# Altium schematic symbol library WE-GFH_3225.SchLib: 12 symbols
Pins are listed as number, name and electrical type; pins without a type are passive.

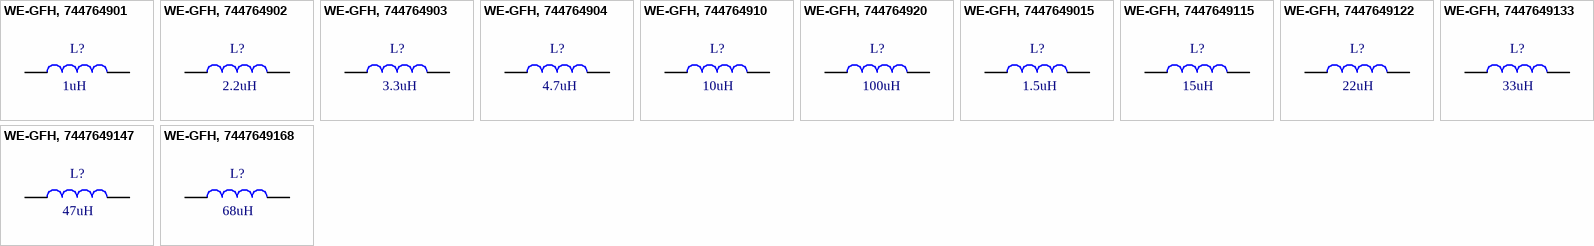
[diagram p0: symbols WE-GFH, 744764901 to WE-GFH, 7447649168]

## WE-GFH, 744764901
designator L?  value 1uH
WE-GFH High Frequency SMD Inductor, size 3225, 1uH; PartNumber: 744764901; PublishedDate: Sep. 2016; Publisher: Wurth Elektronik; ComponentLink1Description: Manufacturer; ComponentLink1URL: http://www.we-online.de; ComponentLink2Description: Datasheet; ComponentLink2URL: http://katalog.we-online.de/pbs/datasheet/744764901.pdf; Size: 3225
footprint WE-GFH_3225
pins: 1, 2

## WE-GFH, 744764902
designator L?  value 2.2uH
WE-GFH High Frequency SMD Inductor, size 3225, 2.2uH; PartNumber: 744764902; PublishedDate: Sep. 2016; Publisher: Wurth Elektronik; ComponentLink1Description: Manufacturer; ComponentLink1URL: http://www.we-online.de; ComponentLink2Description: Datasheet; ComponentLink2URL: http://katalog.we-online.de/pbs/datasheet/744764902.pdf; Size: 3225
footprint WE-GFH_3225
pins: 1, 2

## WE-GFH, 744764903
designator L?  value 3.3uH
WE-GFH High Frequency SMD Inductor, size 3225, 3.3uH; PartNumber: 744764903; PublishedDate: Sep. 2016; Publisher: Wurth Elektronik; ComponentLink1Description: Manufacturer; ComponentLink1URL: http://www.we-online.de; ComponentLink2Description: Datasheet; ComponentLink2URL: http://katalog.we-online.de/pbs/datasheet/744764903.pdf; Size: 3225
footprint WE-GFH_3225
pins: 1, 2

## WE-GFH, 744764904
designator L?  value 4.7uH
WE-GFH High Frequency SMD Inductor, size 3225, 4.7uH; PartNumber: 744764904; PublishedDate: Sep. 2016; Publisher: Wurth Elektronik; ComponentLink1Description: Manufacturer; ComponentLink1URL: http://www.we-online.de; ComponentLink2Description: Datasheet; ComponentLink2URL: http://katalog.we-online.de/pbs/datasheet/744764904.pdf; Size: 3225
footprint WE-GFH_3225
pins: 1, 2

## WE-GFH, 744764910
designator L?  value 10uH
WE-GFH High Frequency SMD Inductor, size 3225, 10uH; PartNumber: 744764910; PublishedDate: Sep. 2016; Publisher: Wurth Elektronik; ComponentLink1Description: Manufacturer; ComponentLink1URL: http://www.we-online.de; ComponentLink2Description: Datasheet; ComponentLink2URL: http://katalog.we-online.de/pbs/datasheet/744764910.pdf; Size: 3225
footprint WE-GFH_3225
pins: 1, 2

## WE-GFH, 744764920
designator L?  value 100uH
WE-GFH High Frequency SMD Inductor, size 3225, 100uH; PartNumber: 744764920; PublishedDate: Sep. 2016; Publisher: Wurth Elektronik; ComponentLink1Description: Manufacturer; ComponentLink1URL: http://www.we-online.de; ComponentLink2Description: Datasheet; ComponentLink2URL: http://katalog.we-online.de/pbs/datasheet/744764920.pdf; Size: 3225
footprint WE-GFH_3225
pins: 1, 2

## WE-GFH, 7447649015
designator L?  value 1.5uH
WE-GFH High Frequency SMD Inductor, size 3225, 1.5uH; PartNumber: 7447649015; PublishedDate: Sep. 2016; Publisher: Wurth Elektronik; ComponentLink1Description: Manufacturer; ComponentLink1URL: http://www.we-online.de; ComponentLink2Description: Datasheet; ComponentLink2URL: http://katalog.we-online.de/pbs/datasheet/7447649015.pdf; Size: 3225
footprint WE-GFH_3225
pins: 1, 2

## WE-GFH, 7447649115
designator L?  value 15uH
WE-GFH High Frequency SMD Inductor, size 3225, 15uH; PartNumber: 7447649115; PublishedDate: Sep. 2016; Publisher: Wurth Elektronik; ComponentLink1Description: Manufacturer; ComponentLink1URL: http://www.we-online.de; ComponentLink2Description: Datasheet; ComponentLink2URL: http://katalog.we-online.de/pbs/datasheet/7447649115.pdf; Size: 3225
footprint WE-GFH_3225
pins: 1, 2

## WE-GFH, 7447649122
designator L?  value 22uH
WE-GFH High Frequency SMD Inductor, size 3225, 22uH; PartNumber: 7447649122; PublishedDate: Sep. 2016; Publisher: Wurth Elektronik; ComponentLink1Description: Manufacturer; ComponentLink1URL: http://www.we-online.de; ComponentLink2Description: Datasheet; ComponentLink2URL: http://katalog.we-online.de/pbs/datasheet/7447649122.pdf; Size: 3225
footprint WE-GFH_3225
pins: 1, 2

## WE-GFH, 7447649133
designator L?  value 33uH
WE-GFH High Frequency SMD Inductor, size 3225, 33uH; PartNumber: 7447649133; PublishedDate: Sep. 2016; Publisher: Wurth Elektronik; ComponentLink1Description: Manufacturer; ComponentLink1URL: http://www.we-online.de; ComponentLink2Description: Datasheet; ComponentLink2URL: http://katalog.we-online.de/pbs/datasheet/7447649133.pdf; Size: 3225
footprint WE-GFH_3225
pins: 1, 2

## WE-GFH, 7447649147
designator L?  value 47uH
WE-GFH High Frequency SMD Inductor, size 3225, 47uH; PartNumber: 7447649147; PublishedDate: Sep. 2016; Publisher: Wurth Elektronik; ComponentLink1Description: Manufacturer; ComponentLink1URL: http://www.we-online.de; ComponentLink2Description: Datasheet; ComponentLink2URL: http://katalog.we-online.de/pbs/datasheet/7447649147.pdf; Size: 3225
footprint WE-GFH_3225
pins: 1, 2

## WE-GFH, 7447649168
designator L?  value 68uH
WE-GFH High Frequency SMD Inductor, size 3225, 68uH; PartNumber: 7447649168; PublishedDate: Sep. 2016; Publisher: Wurth Elektronik; ComponentLink1Description: Manufacturer; ComponentLink1URL: http://www.we-online.de; ComponentLink2Description: Datasheet; ComponentLink2URL: http://katalog.we-online.de/pbs/datasheet/7447649168.pdf; Size: 3225
footprint WE-GFH_3225
pins: 1, 2